# EAGLE library part STD_SERVOS_3X8 (library rhoban)
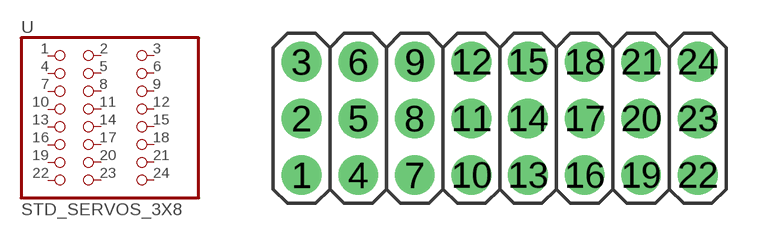
[diagram p6: symbol with the pads of STD_SERVOS_3X8; footprint STD_SERVOS_3X8]

Designator prefix -

## STD_SERVOS_3X8  [STD_SERVOS_3X8]
1  1  pas
2  2  pas
3  3  pas
4  4  pas
5  5  pas
6  6  pas
7  7  pas
8  8  pas
9  9  pas
10  10  pas
11  11  pas
12  12  pas
13  13  pas
14  14  pas
15  15  pas
16  16  pas
17  17  pas
18  18  pas
19  19  pas
20  20  pas
21  21  pas
22  22  pas
23  23  pas
24  24  pas

## Footprint STD_SERVOS_3X8 (pad centres in mm)
drill 1 pad 1.778: 1 -8.89,-1.27; 2 -8.89,1.27; 3 -8.89,3.81; 4 -6.35,-1.27; 5 -6.35,1.27; 6 -6.35,3.81; 7 -3.81,-1.27; 8 -3.81,1.27; 9 -3.81,3.81; 10 -1.27,-1.27; 11 -1.27,1.27; 12 -1.27,3.81; 13 1.27,-1.27; 14 1.27,1.27; 15 1.27,3.81; 16 3.81,-1.27; 17 3.81,1.27; 18 3.81,3.81; 19 6.35,-1.27; 20 6.35,1.27; 21 6.35,3.81; 22 8.89,-1.27; 23 8.89,1.27; 24 8.89,3.81